# Altium integrated library Atmel GPS.IntLib: 12 symbols
Pins are listed as number, name and electrical type; pins without a type are passive.

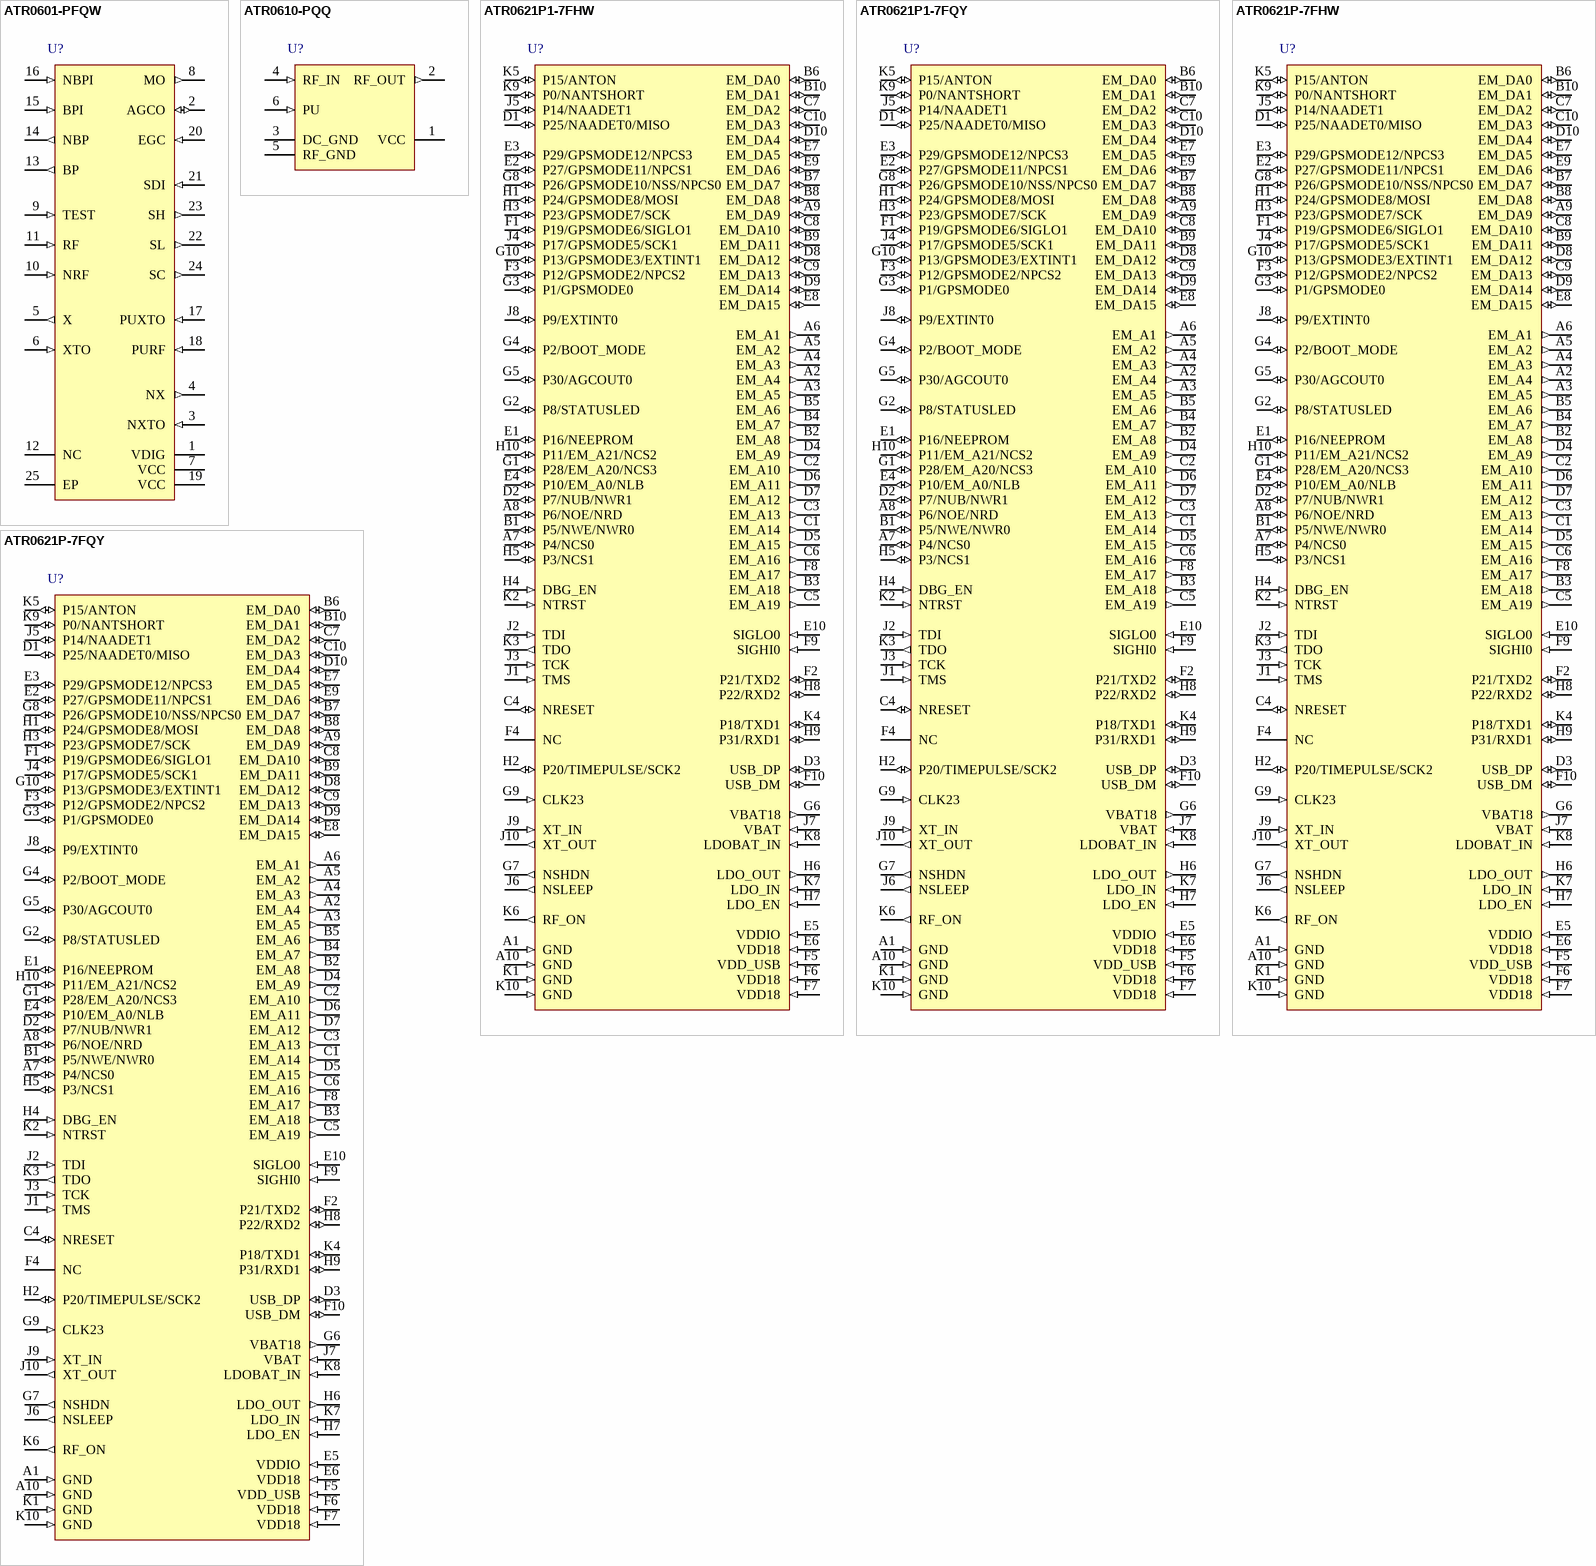
[diagram p0: symbols ATR0601-PFQW to ATR0621P-7FQY]

## ATR0601-PFQW
designator U?
ANTARIS®4 GPS RF Receiver, Single IF Front End Concept, Very Low Power, Immune Against RF Interference, 24-Pin QFN, Pb-Free, Tape and Reel; DatasheetVersion: revG, Nov-2006; PackageVersion: rev2, Nov-2005; PackageReference: QFN24; PackageDescription: 24-Pin Quad Flat No-Lead, 4 x 4 mm Body, 0.5 mm Pitch, 2.6 x 2.6 mm Exposed Pad; Code_JEDEC: MO-220; ComponentLink1Description: Manufacturer URL; ComponentLink1URL: http://www.atmel.com/; ComponentLink2Description: ATR0601 Datasheet; ComponentLink2URL: http://www.atmel.com/dyn/resources/prod_documents/doc4866.pdf
footprint QFN24_N (QFN, 24-Leads, Body 4x4mm, Pitch 0.5mm, Thermal Pad 2.8x2.8mm, IPC Medium Density)
footprint QFN24_L (QFN, 24-Leads, Body 4x4mm, Pitch 0.5mm, Thermal Pad 2.8x2.8mm, IPC High Density)
footprint QFN24_M (QFN, 24-Leads, Body 4x4mm, Pitch 0.5mm, Thermal Pad 2.8x2.8mm, IPC Low Density)
pins: 1 VDIG (power), 2 AGCO (io), 3 NXTO (in), 4 NX (out), 5 X (out), 6 XTO (in), 7 VCC (power), 8 MO (out), 9 TEST (in), 10 NRF (in), 11 RF (in), 12 NC, 13 BP (out), 14 NBP (out), 15 BPI (in), 16 NBPI (in), 17 PUXTO (in), 18 PURF (in), 19 VCC (power), 20 EGC (in), 21 SDI (in), 22 SL (out), 23 SH (out), 24 SC (out), 25 EP (power)

## ATR0610-PQQ
designator U?
ANTARIS GPS LNA with Integrated Power-up Control and Output Matching (NF Min < 1.6 dB), 6-Pin PLLP, Pb-Free; DatasheetVersion: revH, Nov-2006; PackageVersion: rev1, Jul-2002; PackageReference: PLLP6; PackageDescription: LLP, Plastic, Dual, 1.6 x 2 x 0.9 mm Body, 6 Lead, 0.5 mm Pitch; ComponentLink1Description: Manufacturer URL; ComponentLink1URL: http://www.atmel.com/; ComponentLink2Description: ATR0610 Datasheet; ComponentLink2URL: http://www.atmel.com/dyn/resources/prod_documents/doc4573.pdf
footprint PLLP6 (SON, 6-Leads, Body 1.6x2mm, Pitch 0.5mm)
pins: 1 VCC (power), 2 RF_OUT (out), 3 DC_GND (power), 4 RF_IN (in), 5 RF_GND (power), 6 PU (in)

## ATR0621P1-7FHW
designator U?
ANTARIS4 GPS 16-channel Baseband Controller, ARM7TDMI, RAM, ROM V5, Up to -158 dBm Sensitivity with External Software, Low Power, 100-Ball LFBGA; DatasheetVersion: revB, May-2008; PackageVersion: rev2, Oct-2005; PackageReference: LFBGA100; PackageDescription: 100-Ball Low Profile Fine-Pitch BGA, 9 x 9 mm Body, 0.8 mm Pitch; ComponentLink1Description: Manufacturer URL; ComponentLink1URL: http://www.atmel.com/; ComponentLink2Description: ATR0621P1 Datasheet; ComponentLink2URL: http://www.atmel.com/dyn/resources/prod_documents/4975s.pdf
footprint LFBGA100 (BGA, 100-Leads, Body 9x9mm, Pitch 0.8mm)
pins: A1 GND (in), A2 EM_A4 (out), A3 EM_A5 (out), A4 EM_A3 (out), A5 EM_A2 (out), A6 EM_A1 (out), A7 P4/NCS0 (io), A8 P6/NOE/NRD (io), A9 EM_DA9 (io), A10 GND (in), B1 P5/NWE/NWR0 (io), B2 EM_A8 (out), B3 EM_A18 (out), B4 EM_A7 (out), B5 EM_A6 (out), B6 EM_DA0 (io), B7 EM_DA7 (io), B8 EM_DA8 (io), B9 EM_DA11 (io), B10 EM_DA1 (io), C1 EM_A14 (out), C2 EM_A10 (out), C3 EM_A13 (out), C4 NRESET (io), C5 EM_A19 (out), C6 EM_A16 (out), C7 EM_DA2 (io), C8 EM_DA10 (io), C9 EM_DA13 (io), C10 EM_DA3 (io), D1 P25/NAADET0/MISO (io), D2 P7/NUB/NWR1 (io), D3 USB_DP (io), D4 EM_A9 (out), D5 EM_A15 (out), D6 EM_A11 (out), D7 EM_A12 (out), D8 EM_DA12 (io), D9 EM_DA14 (io), D10 EM_DA4 (io), E1 P16/NEEPROM (io), E2 P27/GPSMODE11/NPCS1 (io), E3 P29/GPSMODE12/NPCS3 (io), E4 P10/EM_A0/NLB (io), E5 VDDIO (in), E6 VDD18 (in), E7 EM_DA5 (io), E8 EM_DA15 (io), E9 EM_DA6 (io), E10 SIGLO0 (in), F1 P19/GPSMODE6/SIGLO1 (io), F2 P21/TXD2 (io), F3 P12/GPSMODE2/NPCS2 (io), F4 NC, F5 VDD_USB (in), F6 VDD18 (in), F7 VDD18 (in), F8 EM_A17 (out), F9 SIGHI0 (in), F10 USB_DM (io), G1 P28/EM_A20/NCS3 (io), G2 P8/STATUSLED (io), G3 P1/GPSMODE0 (io), G4 P2/BOOT_MODE (io), G5 P30/AGCOUT0 (io), G6 VBAT18 (out), G7 NSHDN (out), G8 P26/GPSMODE10/NSS/NPCS0 (io), G9 CLK23 (in), G10 P13/GPSMODE3/EXTINT1 (io), H1 P24/GPSMODE8/MOSI (io), H2 P20/TIMEPULSE/SCK2 (io), H3 P23/GPSMODE7/SCK (io), H4 DBG_EN (in), H5 P3/NCS1 (io), H6 LDO_OUT (out), H7 LDO_EN (in), H8 P22/RXD2 (io), H9 P31/RXD1 (io), H10 P11/EM_A21/NCS2 (io), J1 TMS (in), J2 TDI (in), J3 TCK (in), J4 P17/GPSMODE5/SCK1 (io), J5 P14/NAADET1 (io), J6 NSLEEP (out), J7 VBAT (in), J8 P9/EXTINT0 (io), J9 XT_IN (in), J10 XT_OUT (out), K1 GND (in), K2 NTRST (in), K3 TDO (out), K4 P18/TXD1 (io), K5 P15/ANTON (io), K6 RF_ON (out), K7 LDO_IN (in), K8 LDOBAT_IN (in), K9 P0/NANTSHORT (io), K10 GND (in)

## ATR0621P1-7FQY
designator U?
ANTARIS4 GPS 16-channel Baseband Controller, ARM7TDMI, RAM, ROM V5, Up to -158 dBm Sensitivity with External Software, Low Power, 100-Ball LFBGA; DatasheetVersion: revB, May-2008; PackageVersion: rev2, Oct-2005; PackageReference: LFBGA100; PackageDescription: 100-Ball Low Profile Fine-Pitch BGA, 9 x 9 mm Body, 0.8 mm Pitch; ComponentLink1Description: Manufacturer URL; ComponentLink1URL: http://www.atmel.com/; ComponentLink2Description: ATR0621P1 Datasheet; ComponentLink2URL: http://www.atmel.com/dyn/resources/prod_documents/4975s.pdf
footprint LFBGA100 (BGA, 100-Leads, Body 9x9mm, Pitch 0.8mm)
pins: A1 GND (in), A2 EM_A4 (out), A3 EM_A5 (out), A4 EM_A3 (out), A5 EM_A2 (out), A6 EM_A1 (out), A7 P4/NCS0 (io), A8 P6/NOE/NRD (io), A9 EM_DA9 (io), A10 GND (in), B1 P5/NWE/NWR0 (io), B2 EM_A8 (out), B3 EM_A18 (out), B4 EM_A7 (out), B5 EM_A6 (out), B6 EM_DA0 (io), B7 EM_DA7 (io), B8 EM_DA8 (io), B9 EM_DA11 (io), B10 EM_DA1 (io), C1 EM_A14 (out), C2 EM_A10 (out), C3 EM_A13 (out), C4 NRESET (io), C5 EM_A19 (out), C6 EM_A16 (out), C7 EM_DA2 (io), C8 EM_DA10 (io), C9 EM_DA13 (io), C10 EM_DA3 (io), D1 P25/NAADET0/MISO (io), D2 P7/NUB/NWR1 (io), D3 USB_DP (io), D4 EM_A9 (out), D5 EM_A15 (out), D6 EM_A11 (out), D7 EM_A12 (out), D8 EM_DA12 (io), D9 EM_DA14 (io), D10 EM_DA4 (io), E1 P16/NEEPROM (io), E2 P27/GPSMODE11/NPCS1 (io), E3 P29/GPSMODE12/NPCS3 (io), E4 P10/EM_A0/NLB (io), E5 VDDIO (in), E6 VDD18 (in), E7 EM_DA5 (io), E8 EM_DA15 (io), E9 EM_DA6 (io), E10 SIGLO0 (in), F1 P19/GPSMODE6/SIGLO1 (io), F2 P21/TXD2 (io), F3 P12/GPSMODE2/NPCS2 (io), F4 NC, F5 VDD_USB (in), F6 VDD18 (in), F7 VDD18 (in), F8 EM_A17 (out), F9 SIGHI0 (in), F10 USB_DM (io), G1 P28/EM_A20/NCS3 (io), G2 P8/STATUSLED (io), G3 P1/GPSMODE0 (io), G4 P2/BOOT_MODE (io), G5 P30/AGCOUT0 (io), G6 VBAT18 (out), G7 NSHDN (out), G8 P26/GPSMODE10/NSS/NPCS0 (io), G9 CLK23 (in), G10 P13/GPSMODE3/EXTINT1 (io), H1 P24/GPSMODE8/MOSI (io), H2 P20/TIMEPULSE/SCK2 (io), H3 P23/GPSMODE7/SCK (io), H4 DBG_EN (in), H5 P3/NCS1 (io), H6 LDO_OUT (out), H7 LDO_EN (in), H8 P22/RXD2 (io), H9 P31/RXD1 (io), H10 P11/EM_A21/NCS2 (io), J1 TMS (in), J2 TDI (in), J3 TCK (in), J4 P17/GPSMODE5/SCK1 (io), J5 P14/NAADET1 (io), J6 NSLEEP (out), J7 VBAT (in), J8 P9/EXTINT0 (io), J9 XT_IN (in), J10 XT_OUT (out), K1 GND (in), K2 NTRST (in), K3 TDO (out), K4 P18/TXD1 (io), K5 P15/ANTON (io), K6 RF_ON (out), K7 LDO_IN (in), K8 LDOBAT_IN (in), K9 P0/NANTSHORT (io), K10 GND (in)

## ATR0621P-7FHW
designator U?
ANTARIS4 GPS 16-channel Baseband Controller, ARM7TDMI, RAM, ROM V5, Up to -158 dBm Sensitivity with External Software, Low Power, 100-Ball LFBGA, Pb-Free; DatasheetVersion: revB, May-2008; PackageVersion: rev2, Oct-2005; PackageReference: LFBGA100; PackageDescription: 100-Ball Low Profile Fine-Pitch BGA, 9 x 9 mm Body, 0.8 mm Pitch; ComponentLink1Description: Manufacturer URL; ComponentLink1URL: http://www.atmel.com/; ComponentLink2Description: ATR0621P Datasheet; ComponentLink2URL: http://www.atmel.com/dyn/resources/prod_documents/doc4890.pdf
footprint LFBGA100 (BGA, 100-Leads, Body 9x9mm, Pitch 0.8mm)
pins: A1 GND (in), A2 EM_A4 (out), A3 EM_A5 (out), A4 EM_A3 (out), A5 EM_A2 (out), A6 EM_A1 (out), A7 P4/NCS0 (io), A8 P6/NOE/NRD (io), A9 EM_DA9 (io), A10 GND (in), B1 P5/NWE/NWR0 (io), B2 EM_A8 (out), B3 EM_A18 (out), B4 EM_A7 (out), B5 EM_A6 (out), B6 EM_DA0 (io), B7 EM_DA7 (io), B8 EM_DA8 (io), B9 EM_DA11 (io), B10 EM_DA1 (io), C1 EM_A14 (out), C2 EM_A10 (out), C3 EM_A13 (out), C4 NRESET (io), C5 EM_A19 (out), C6 EM_A16 (out), C7 EM_DA2 (io), C8 EM_DA10 (io), C9 EM_DA13 (io), C10 EM_DA3 (io), D1 P25/NAADET0/MISO (io), D2 P7/NUB/NWR1 (io), D3 USB_DP (io), D4 EM_A9 (out), D5 EM_A15 (out), D6 EM_A11 (out), D7 EM_A12 (out), D8 EM_DA12 (io), D9 EM_DA14 (io), D10 EM_DA4 (io), E1 P16/NEEPROM (io), E2 P27/GPSMODE11/NPCS1 (io), E3 P29/GPSMODE12/NPCS3 (io), E4 P10/EM_A0/NLB (io), E5 VDDIO (in), E6 VDD18 (in), E7 EM_DA5 (io), E8 EM_DA15 (io), E9 EM_DA6 (io), E10 SIGLO0 (in), F1 P19/GPSMODE6/SIGLO1 (io), F2 P21/TXD2 (io), F3 P12/GPSMODE2/NPCS2 (io), F4 NC, F5 VDD_USB (in), F6 VDD18 (in), F7 VDD18 (in), F8 EM_A17 (out), F9 SIGHI0 (in), F10 USB_DM (io), G1 P28/EM_A20/NCS3 (io), G2 P8/STATUSLED (io), G3 P1/GPSMODE0 (io), G4 P2/BOOT_MODE (io), G5 P30/AGCOUT0 (io), G6 VBAT18 (out), G7 NSHDN (out), G8 P26/GPSMODE10/NSS/NPCS0 (io), G9 CLK23 (in), G10 P13/GPSMODE3/EXTINT1 (io), H1 P24/GPSMODE8/MOSI (io), H2 P20/TIMEPULSE/SCK2 (io), H3 P23/GPSMODE7/SCK (io), H4 DBG_EN (in), H5 P3/NCS1 (io), H6 LDO_OUT (out), H7 LDO_EN (in), H8 P22/RXD2 (io), H9 P31/RXD1 (io), H10 P11/EM_A21/NCS2 (io), J1 TMS (in), J2 TDI (in), J3 TCK (in), J4 P17/GPSMODE5/SCK1 (io), J5 P14/NAADET1 (io), J6 NSLEEP (out), J7 VBAT (in), J8 P9/EXTINT0 (io), J9 XT_IN (in), J10 XT_OUT (out), K1 GND (in), K2 NTRST (in), K3 TDO (out), K4 P18/TXD1 (io), K5 P15/ANTON (io), K6 RF_ON (out), K7 LDO_IN (in), K8 LDOBAT_IN (in), K9 P0/NANTSHORT (io), K10 GND (in)

## ATR0621P-7FQY
designator U?
ANTARIS4 GPS 16-channel Baseband Controller, ARM7TDMI, RAM, ROM V5, Up to -158 dBm Sensitivity with External Software, Low Power, 100-Ball LFBGA, Pb-Free; DatasheetVersion: revB, May-2008; PackageVersion: rev2, Oct-2005; PackageReference: LFBGA100; PackageDescription: 100-Ball Low Profile Fine-Pitch BGA, 9 x 9 mm Body, 0.8 mm Pitch; ComponentLink1Description: Manufacturer URL; ComponentLink1URL: http://www.atmel.com/; ComponentLink2Description: ATR0621P Datasheet; ComponentLink2URL: http://www.atmel.com/dyn/resources/prod_documents/doc4890.pdf
footprint LFBGA100 (BGA, 100-Leads, Body 9x9mm, Pitch 0.8mm)
pins: A1 GND (in), A2 EM_A4 (out), A3 EM_A5 (out), A4 EM_A3 (out), A5 EM_A2 (out), A6 EM_A1 (out), A7 P4/NCS0 (io), A8 P6/NOE/NRD (io), A9 EM_DA9 (io), A10 GND (in), B1 P5/NWE/NWR0 (io), B2 EM_A8 (out), B3 EM_A18 (out), B4 EM_A7 (out), B5 EM_A6 (out), B6 EM_DA0 (io), B7 EM_DA7 (io), B8 EM_DA8 (io), B9 EM_DA11 (io), B10 EM_DA1 (io), C1 EM_A14 (out), C2 EM_A10 (out), C3 EM_A13 (out), C4 NRESET (io), C5 EM_A19 (out), C6 EM_A16 (out), C7 EM_DA2 (io), C8 EM_DA10 (io), C9 EM_DA13 (io), C10 EM_DA3 (io), D1 P25/NAADET0/MISO (io), D2 P7/NUB/NWR1 (io), D3 USB_DP (io), D4 EM_A9 (out), D5 EM_A15 (out), D6 EM_A11 (out), D7 EM_A12 (out), D8 EM_DA12 (io), D9 EM_DA14 (io), D10 EM_DA4 (io), E1 P16/NEEPROM (io), E2 P27/GPSMODE11/NPCS1 (io), E3 P29/GPSMODE12/NPCS3 (io), E4 P10/EM_A0/NLB (io), E5 VDDIO (in), E6 VDD18 (in), E7 EM_DA5 (io), E8 EM_DA15 (io), E9 EM_DA6 (io), E10 SIGLO0 (in), F1 P19/GPSMODE6/SIGLO1 (io), F2 P21/TXD2 (io), F3 P12/GPSMODE2/NPCS2 (io), F4 NC, F5 VDD_USB (in), F6 VDD18 (in), F7 VDD18 (in), F8 EM_A17 (out), F9 SIGHI0 (in), F10 USB_DM (io), G1 P28/EM_A20/NCS3 (io), G2 P8/STATUSLED (io), G3 P1/GPSMODE0 (io), G4 P2/BOOT_MODE (io), G5 P30/AGCOUT0 (io), G6 VBAT18 (out), G7 NSHDN (out), G8 P26/GPSMODE10/NSS/NPCS0 (io), G9 CLK23 (in), G10 P13/GPSMODE3/EXTINT1 (io), H1 P24/GPSMODE8/MOSI (io), H2 P20/TIMEPULSE/SCK2 (io), H3 P23/GPSMODE7/SCK (io), H4 DBG_EN (in), H5 P3/NCS1 (io), H6 LDO_OUT (out), H7 LDO_EN (in), H8 P22/RXD2 (io), H9 P31/RXD1 (io), H10 P11/EM_A21/NCS2 (io), J1 TMS (in), J2 TDI (in), J3 TCK (in), J4 P17/GPSMODE5/SCK1 (io), J5 P14/NAADET1 (io), J6 NSLEEP (out), J7 VBAT (in), J8 P9/EXTINT0 (io), J9 XT_IN (in), J10 XT_OUT (out), K1 GND (in), K2 NTRST (in), K3 TDO (out), K4 P18/TXD1 (io), K5 P15/ANTON (io), K6 RF_ON (out), K7 LDO_IN (in), K8 LDOBAT_IN (in), K9 P0/NANTSHORT (io), K10 GND (in)

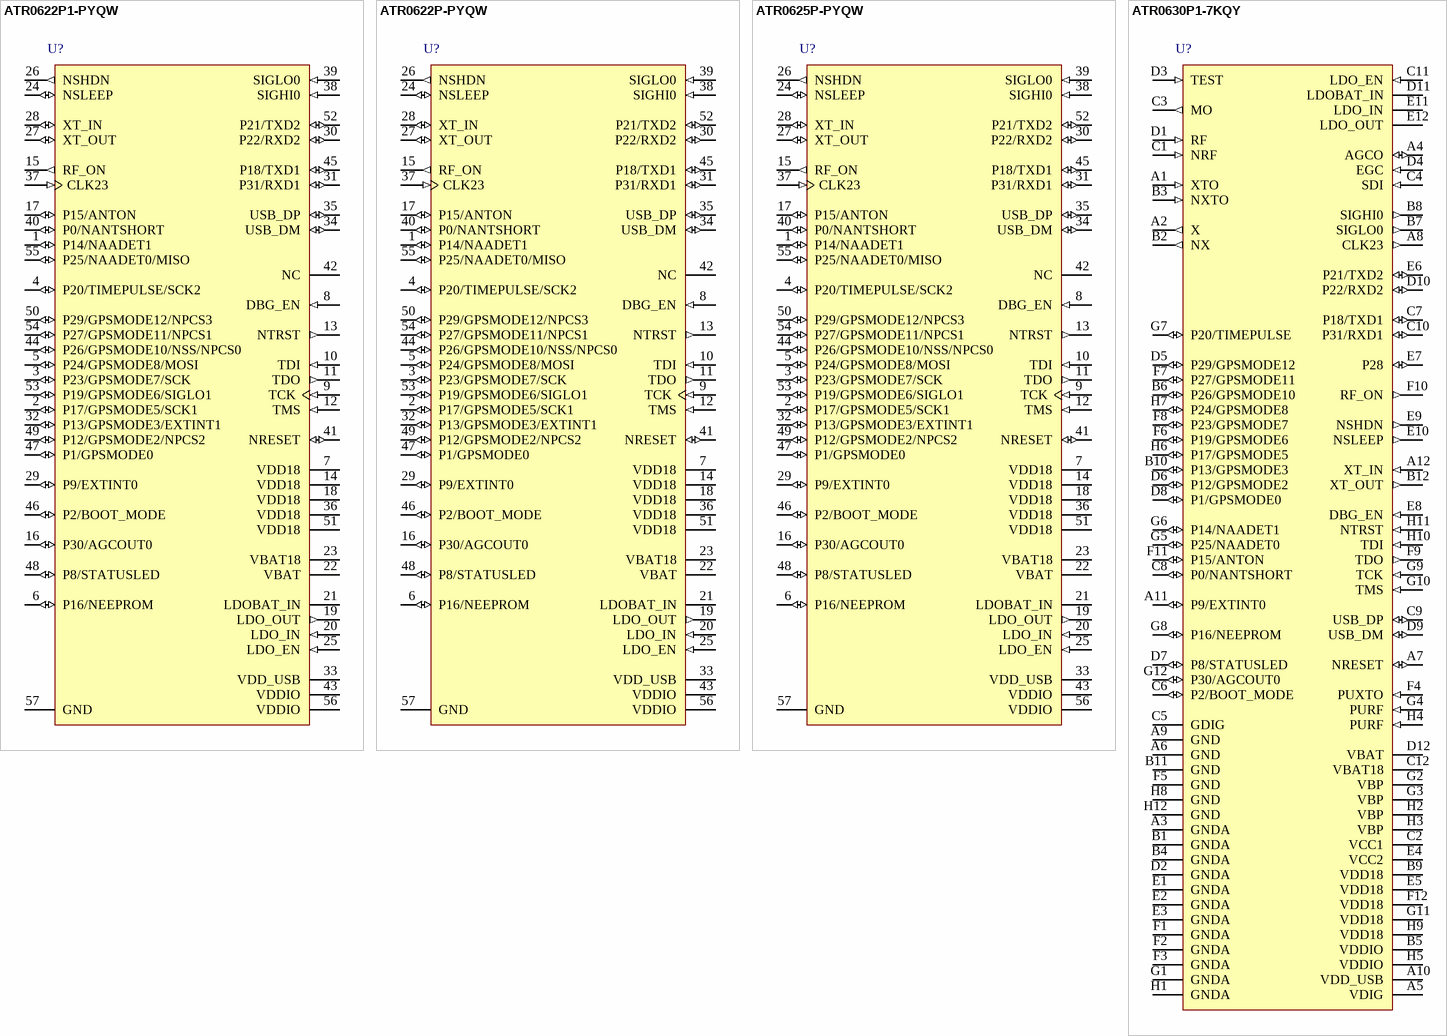
[diagram p1: symbols ATR0622P1-PYQW to ATR0630P1-7KQY]

## ATR0622P1-PYQW
designator U?
ANTARIS4 GPS 16-channel Baseband Controller, ARM7TDMI, RAM, ROM V5, Up to -150 dBm Sensitivity, Low Power, 56-Pin QFN; DatasheetVersion: revA, Dec-2007; PackageVersion: rev1, Sep-2005; PackageReference: QFN56; PackageDescription: 56-Pin Quad Flat No-Lead, 8 x 8 mm Body, 0.5 mm Pitch, 6.5 x 6.5 mm Exposed Pad; ComponentLink1Description: Manufacturer URL; ComponentLink1URL: http://www.atmel.com/; ComponentLink2Description: ATR0622P1 Datasheet; ComponentLink2URL: http://www.atmel.com/dyn/resources/prod_documents/4973s.pdf
footprint QFN56_N (QFN, 56-Leads, Body 8x8mm, Pitch 0.5mm, Thermal Pad 6.5x6.5mm, IPC Medium Density)
footprint QFN56_L (QFN, 56-Leads, Body 8x8mm, Pitch 0.5mm, Thermal Pad 6.5x6.5mm, IPC High Density)
footprint QFN56_M (QFN, 56-Leads, Body 8x8mm, Pitch 0.5mm, Thermal Pad 6.5x6.5mm, IPC Low Density)
pins: 1 P14/NAADET1 (io), 2 P17/GPSMODE5/SCK1 (io), 3 P23/GPSMODE7/SCK (io), 4 P20/TIMEPULSE/SCK2 (io), 5 P24/GPSMODE8/MOSI (io), 6 P16/NEEPROM (io), 7 VDD18 (power), 8 DBG_EN (in), 9 TCK (in), 10 TDI (in), 11 TDO (out), 12 TMS (in), 13 NTRST (out), 14 VDD18 (power), 15 RF_ON (out), 16 P30/AGCOUT0 (io), 17 P15/ANTON (io), 18 VDD18 (power), 19 LDO_OUT (out), 20 LDO_IN (in), 21 LDOBAT_IN (power), 22 VBAT (power), 23 VBAT18 (power), 24 NSLEEP (io), 25 LDO_EN (in), 26 NSHDN (out), 27 XT_OUT (io), 28 XT_IN (io), 29 P9/EXTINT0 (io), 30 P22/RXD2 (io), 31 P31/RXD1 (io), 32 P13/GPSMODE3/EXTINT1 (io), 33 VDD_USB (power), 34 USB_DM (io), 35 USB_DP (io), 36 VDD18 (power), 37 CLK23 (in), 38 SIGHI0 (in), 39 SIGLO0 (in), 40 P0/NANTSHORT (io), 41 NRESET (io), 42 NC, 43 VDDIO (power), 44 P26/GPSMODE10/NSS/NPCS0 (io), 45 P18/TXD1 (io), 46 P2/BOOT_MODE (io), 47 P1/GPSMODE0 (io), 48 P8/STATUSLED (io), 49 P12/GPSMODE2/NPCS2 (io), 50 P29/GPSMODE12/NPCS3 (io), 51 VDD18 (power), 52 P21/TXD2 (io), 53 P19/GPSMODE6/SIGLO1 (io), 54 P27/GPSMODE11/NPCS1 (io), 55 P25/NAADET0/MISO (io), 56 VDDIO (power), 57 GND (power)

## ATR0622P-PYQW
designator U?
ANTARIS4 GPS 16-channel Baseband Controller, ARM7TDMI, RAM, ROM V5, Up to -150 dBm Sensitivity, Low Power, 56-Pin QFN; DatasheetVersion: revG, Aug-2008; PackageVersion: rev1, Sep-2005; PackageReference: QFN56; PackageDescription: 56-Pin Quad Flat No-Lead, 8 x 8 mm Body, 0.5 mm Pitch, 6.5 x 6.5 mm Exposed Pad; ComponentLink1Description: Manufacturer URL; ComponentLink1URL: http://www.atmel.com/; ComponentLink2Description: ATR0622P Datasheet; ComponentLink2URL: http://www.atmel.com/dyn/resources/prod_documents/doc4891.pdf
footprint QFN56_N (QFN, 56-Leads, Body 8x8mm, Pitch 0.5mm, Thermal Pad 6.5x6.5mm, IPC Medium Density)
footprint QFN56_L (QFN, 56-Leads, Body 8x8mm, Pitch 0.5mm, Thermal Pad 6.5x6.5mm, IPC High Density)
footprint QFN56_M (QFN, 56-Leads, Body 8x8mm, Pitch 0.5mm, Thermal Pad 6.5x6.5mm, IPC Low Density)
pins: 1 P14/NAADET1 (io), 2 P17/GPSMODE5/SCK1 (io), 3 P23/GPSMODE7/SCK (io), 4 P20/TIMEPULSE/SCK2 (io), 5 P24/GPSMODE8/MOSI (io), 6 P16/NEEPROM (io), 7 VDD18 (power), 8 DBG_EN (in), 9 TCK (in), 10 TDI (in), 11 TDO (out), 12 TMS (in), 13 NTRST (out), 14 VDD18 (power), 15 RF_ON (out), 16 P30/AGCOUT0 (io), 17 P15/ANTON (io), 18 VDD18 (power), 19 LDO_OUT (out), 20 LDO_IN (in), 21 LDOBAT_IN (power), 22 VBAT (power), 23 VBAT18 (power), 24 NSLEEP (io), 25 LDO_EN (in), 26 NSHDN (out), 27 XT_OUT (io), 28 XT_IN (io), 29 P9/EXTINT0 (io), 30 P22/RXD2 (io), 31 P31/RXD1 (io), 32 P13/GPSMODE3/EXTINT1 (io), 33 VDD_USB (power), 34 USB_DM (io), 35 USB_DP (io), 36 VDD18 (power), 37 CLK23 (in), 38 SIGHI0 (in), 39 SIGLO0 (in), 40 P0/NANTSHORT (io), 41 NRESET (io), 42 NC, 43 VDDIO (power), 44 P26/GPSMODE10/NSS/NPCS0 (io), 45 P18/TXD1 (io), 46 P2/BOOT_MODE (io), 47 P1/GPSMODE0 (io), 48 P8/STATUSLED (io), 49 P12/GPSMODE2/NPCS2 (io), 50 P29/GPSMODE12/NPCS3 (io), 51 VDD18 (power), 52 P21/TXD2 (io), 53 P19/GPSMODE6/SIGLO1 (io), 54 P27/GPSMODE11/NPCS1 (io), 55 P25/NAADET0/MISO (io), 56 VDDIO (power), 57 GND (power)

## ATR0625P-PYQW
designator U?
ANTARIS4 GPS 16-channel Baseband Controller, ARM7TDMI, RAM, SuperSense® ROM V5, Up to -158 dBm Sensitivity, Low Power, 56-Pin QFN; DatasheetVersion: revG, Jun-2008; PackageVersion: rev1, Sep-2005; PackageReference: QFN56; PackageDescription: 56-Pin Quad Flat No-Lead, 8 x 8 mm Body, 0.5 mm Pitch, 6.5 x 6.5 mm Exposed Pad; ComponentLink1Description: Manufacturer URL; ComponentLink1URL: http://www.atmel.com/; ComponentLink2Description: ATR0625P Datasheet; ComponentLink2URL: http://www.atmel.com/dyn/resources/prod_documents/doc4925.pdf
footprint QFN56_N (QFN, 56-Leads, Body 8x8mm, Pitch 0.5mm, Thermal Pad 6.5x6.5mm, IPC Medium Density)
footprint QFN56_L (QFN, 56-Leads, Body 8x8mm, Pitch 0.5mm, Thermal Pad 6.5x6.5mm, IPC High Density)
footprint QFN56_M (QFN, 56-Leads, Body 8x8mm, Pitch 0.5mm, Thermal Pad 6.5x6.5mm, IPC Low Density)
pins: 1 P14/NAADET1 (io), 2 P17/GPSMODE5/SCK1 (io), 3 P23/GPSMODE7/SCK (io), 4 P20/TIMEPULSE/SCK2 (io), 5 P24/GPSMODE8/MOSI (io), 6 P16/NEEPROM (io), 7 VDD18 (power), 8 DBG_EN (in), 9 TCK (in), 10 TDI (in), 11 TDO (out), 12 TMS (in), 13 NTRST (out), 14 VDD18 (power), 15 RF_ON (out), 16 P30/AGCOUT0 (io), 17 P15/ANTON (io), 18 VDD18 (power), 19 LDO_OUT (out), 20 LDO_IN (in), 21 LDOBAT_IN (power), 22 VBAT (power), 23 VBAT18 (power), 24 NSLEEP (io), 25 LDO_EN (in), 26 NSHDN (out), 27 XT_OUT (io), 28 XT_IN (io), 29 P9/EXTINT0 (io), 30 P22/RXD2 (io), 31 P31/RXD1 (io), 32 P13/GPSMODE3/EXTINT1 (io), 33 VDD_USB (power), 34 USB_DM (io), 35 USB_DP (io), 36 VDD18 (power), 37 CLK23 (in), 38 SIGHI0 (in), 39 SIGLO0 (in), 40 P0/NANTSHORT (io), 41 NRESET (io), 42 NC, 43 VDDIO (power), 44 P26/GPSMODE10/NSS/NPCS0 (io), 45 P18/TXD1 (io), 46 P2/BOOT_MODE (io), 47 P1/GPSMODE0 (io), 48 P8/STATUSLED (io), 49 P12/GPSMODE2/NPCS2 (io), 50 P29/GPSMODE12/NPCS3 (io), 51 VDD18 (power), 52 P21/TXD2 (io), 53 P19/GPSMODE6/SIGLO1 (io), 54 P27/GPSMODE11/NPCS1 (io), 55 P25/NAADET0/MISO (io), 56 VDDIO (power), 57 GND (power)

## ATR0630P1-7KQY
designator U?
ANTARIS4 Single-chip, 16-channel GPS Engine, RF-receiver, Baseband Controller, ARM7TDMI, RAM, ROM V5, Up to -150 dBm Sensitivity, 96-Ball BGA, Pb-Free; DatasheetVersion: revA, Dec-2007; PackageVersion: rev2, May-2006; PackageReference: BGA96; PackageDescription: 96-Ball Ball Grid Array Rectangular 0.8 mm Pitch; ComponentLink1Description: Manufacturer URL; ComponentLink1URL: http://www.atmel.com/; ComponentLink2Description: ATR0630P1 Datasheet; ComponentLink2URL: http://www.atmel.com/dyn/resources/prod_documents/4978s.pdf
footprint BGA96 (BGA, 96-Leads, Body 7x10mm, Pitch 0.8mm)
pins: A1 XTO (in), A2 X (out), A3 GNDA (power), A4 AGCO (io), A5 VDIG (power), A6 GND (power), A7 NRESET (io), A8 CLK23 (out), A9 GND (power), A10 VDD_USB (power), A11 P9/EXTINT0 (io), A12 XT_IN (in), B1 GNDA (power), B2 NX (out), B3 NXTO (in), B4 GNDA (power), B5 VDDIO (power), B6 P26/GPSMODE10 (io), B7 SIGLO0 (out), B8 SIGHI0 (out), B9 VDD18 (power), B10 P13/GPSMODE3 (io), B11 GND (power), B12 XT_OUT (out), C1 NRF (in), C2 VCC1 (power), C3 MO (out), C4 SDI (in), C5 GDIG (power), C6 P2/BOOT_MODE (io), C7 P18/TXD1 (io), C8 P0/NANTSHORT (io), C9 USB_DP (io), C10 P31/RXD1 (io), C11 LDO_EN (in), C12 VBAT18 (power), D1 RF (in), D2 GNDA (power), D3 TEST (in), D4 EGC (in), D5 P29/GPSMODE12 (io), D6 P12/GPSMODE2 (io), D7 P8/STATUSLED (io), D8 P1/GPSMODE0 (io), D9 USB_DM (io), D10 P22/RXD2 (io), D11 LDOBAT_IN (power), D12 VBAT (power), E1 GNDA (power), E2 GNDA (power), E3 GNDA (power), E4 VCC2 (power), E5 VDD18 (power), E6 P21/TXD2 (io), E7 P28 (io), E8 DBG_EN (in), E9 NSHDN (out), E10 NSLEEP (out), E11 LDO_IN (power), E12 LDO_OUT (power), F1 GNDA (power), F2 GNDA (power), F3 GNDA (power), F4 PUXTO (in), F5 GND (power), F6 P19/GPSMODE6 (io), F7 P27/GPSMODE11 (io), F8 P23/GPSMODE7 (io), F9 TDO (out), F10 RF_ON (out), F11 P15/ANTON (io), F12 VDD18 (power), G1 GNDA (power), G2 VBP (power), G3 VBP (power), G4 PURF (in), G5 P25/NAADET0 (io), G6 P14/NAADET1 (io), G7 P20/TIMEPULSE (io), G8 P16/NEEPROM (io), G9 TCK (in), G10 TMS (in), G11 VDD18 (power), G12 P30/AGCOUT0 (io), H1 GNDA (power), H2 VBP (power), H3 VBP (power), H4 PURF (in), H5 VDDIO (power), H6 P17/GPSMODE5 (io), H7 P24/GPSMODE8 (io), H8 GND (power), H9 VDD18 (power), H10 TDI (in), H11 NTRST (in), H12 GND (power)

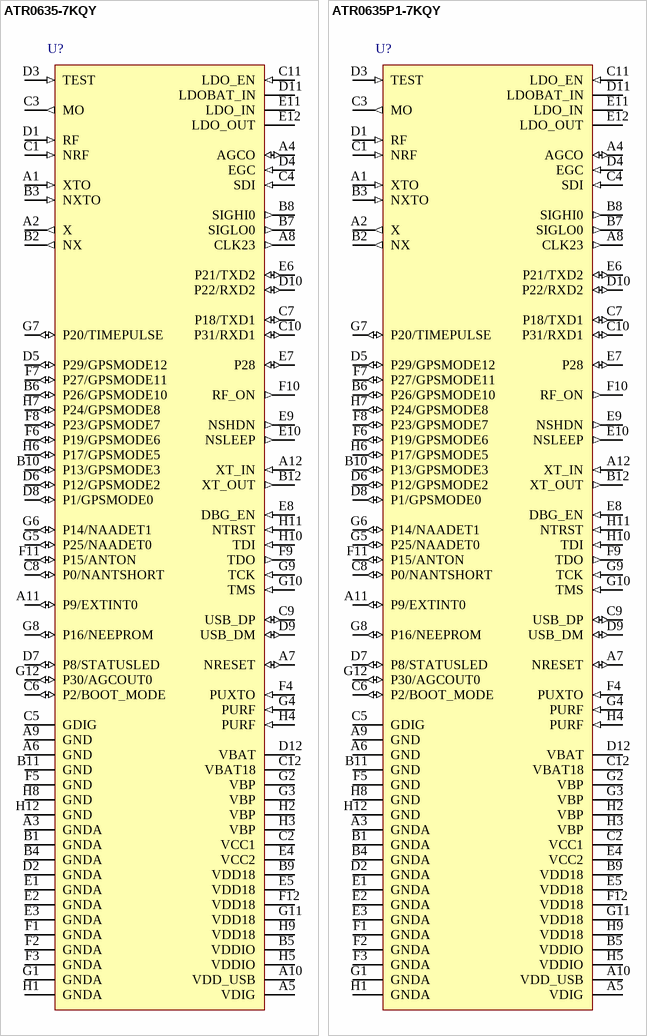
[diagram p2: symbols ATR0635-7KQY to ATR0635P1-7KQY]

## ATR0635-7KQY
designator U?
ANTARIS4 Single-chip, 16-channel GPS Engine, RF-receiver, Baseband Controller, ARM7TDMI, RAM, SuperSense ROM V5, Up to -158 dBm Sensitivity, 96-Ball BGA, Pb-Free; DatasheetVersion: revH, Jun-2008; PackageVersion: rev2, May-2006; PackageReference: BGA96; PackageDescription: 96-Ball Ball Grid Array Rectangular 0.8 mm Pitch; ComponentLink1Description: Manufacturer URL; ComponentLink1URL: http://www.atmel.com/; ComponentLink2Description: ATR0635 Datasheet; ComponentLink2URL: http://www.atmel.com/dyn/resources/prod_documents/doc4928.pdf
footprint BGA96 (BGA, 96-Leads, Body 7x10mm, Pitch 0.8mm)
pins: A1 XTO (in), A2 X (out), A3 GNDA (power), A4 AGCO (io), A5 VDIG (power), A6 GND (power), A7 NRESET (io), A8 CLK23 (out), A9 GND (power), A10 VDD_USB (power), A11 P9/EXTINT0 (io), A12 XT_IN (in), B1 GNDA (power), B2 NX (out), B3 NXTO (in), B4 GNDA (power), B5 VDDIO (power), B6 P26/GPSMODE10 (io), B7 SIGLO0 (out), B8 SIGHI0 (out), B9 VDD18 (power), B10 P13/GPSMODE3 (io), B11 GND (power), B12 XT_OUT (out), C1 NRF (in), C2 VCC1 (power), C3 MO (out), C4 SDI (in), C5 GDIG (power), C6 P2/BOOT_MODE (io), C7 P18/TXD1 (io), C8 P0/NANTSHORT (io), C9 USB_DP (io), C10 P31/RXD1 (io), C11 LDO_EN (in), C12 VBAT18 (power), D1 RF (in), D2 GNDA (power), D3 TEST (in), D4 EGC (in), D5 P29/GPSMODE12 (io), D6 P12/GPSMODE2 (io), D7 P8/STATUSLED (io), D8 P1/GPSMODE0 (io), D9 USB_DM (io), D10 P22/RXD2 (io), D11 LDOBAT_IN (power), D12 VBAT (power), E1 GNDA (power), E2 GNDA (power), E3 GNDA (power), E4 VCC2 (power), E5 VDD18 (power), E6 P21/TXD2 (io), E7 P28 (io), E8 DBG_EN (in), E9 NSHDN (out), E10 NSLEEP (out), E11 LDO_IN (power), E12 LDO_OUT (power), F1 GNDA (power), F2 GNDA (power), F3 GNDA (power), F4 PUXTO (in), F5 GND (power), F6 P19/GPSMODE6 (io), F7 P27/GPSMODE11 (io), F8 P23/GPSMODE7 (io), F9 TDO (out), F10 RF_ON (out), F11 P15/ANTON (io), F12 VDD18 (power), G1 GNDA (power), G2 VBP (power), G3 VBP (power), G4 PURF (in), G5 P25/NAADET0 (io), G6 P14/NAADET1 (io), G7 P20/TIMEPULSE (io), G8 P16/NEEPROM (io), G9 TCK (in), G10 TMS (in), G11 VDD18 (power), G12 P30/AGCOUT0 (io), H1 GNDA (power), H2 VBP (power), H3 VBP (power), H4 PURF (in), H5 VDDIO (power), H6 P17/GPSMODE5 (io), H7 P24/GPSMODE8 (io), H8 GND (power), H9 VDD18 (power), H10 TDI (in), H11 NTRST (in), H12 GND (power)

## ATR0635P1-7KQY
designator U?
ANTARIS4 Single-chip, 16-channel GPS Engine, RF-receiver, Baseband Controller, ARM7TDMI, SuperSense ROM V5, Up to -158 dBm Sensitivity, 96-Ball BGA, Pb-Free; DatasheetVersion: revD, Jun-2008; PackageVersion: rev2, May-2006; PackageReference: BGA96; PackageDescription: 96-Ball Ball Grid Array Rectangular 0.8 mm Pitch; ComponentLink1Description: Manufacturer URL; ComponentLink1URL: http://www.atmel.com/; ComponentLink2Description: ATR0635P1 Datasheet; ComponentLink2URL: http://www.atmel.com/dyn/resources/prod_documents/doc4979.pdf
footprint BGA96 (BGA, 96-Leads, Body 7x10mm, Pitch 0.8mm)
pins: A1 XTO (in), A2 X (out), A3 GNDA (power), A4 AGCO (io), A5 VDIG (power), A6 GND (power), A7 NRESET (io), A8 CLK23 (out), A9 GND (power), A10 VDD_USB (power), A11 P9/EXTINT0 (io), A12 XT_IN (in), B1 GNDA (power), B2 NX (out), B3 NXTO (in), B4 GNDA (power), B5 VDDIO (power), B6 P26/GPSMODE10 (io), B7 SIGLO0 (out), B8 SIGHI0 (out), B9 VDD18 (power), B10 P13/GPSMODE3 (io), B11 GND (power), B12 XT_OUT (out), C1 NRF (in), C2 VCC1 (power), C3 MO (out), C4 SDI (in), C5 GDIG (power), C6 P2/BOOT_MODE (io), C7 P18/TXD1 (io), C8 P0/NANTSHORT (io), C9 USB_DP (io), C10 P31/RXD1 (io), C11 LDO_EN (in), C12 VBAT18 (power), D1 RF (in), D2 GNDA (power), D3 TEST (in), D4 EGC (in), D5 P29/GPSMODE12 (io), D6 P12/GPSMODE2 (io), D7 P8/STATUSLED (io), D8 P1/GPSMODE0 (io), D9 USB_DM (io), D10 P22/RXD2 (io), D11 LDOBAT_IN (power), D12 VBAT (power), E1 GNDA (power), E2 GNDA (power), E3 GNDA (power), E4 VCC2 (power), E5 VDD18 (power), E6 P21/TXD2 (io), E7 P28 (io), E8 DBG_EN (in), E9 NSHDN (out), E10 NSLEEP (out), E11 LDO_IN (power), E12 LDO_OUT (power), F1 GNDA (power), F2 GNDA (power), F3 GNDA (power), F4 PUXTO (in), F5 GND (power), F6 P19/GPSMODE6 (io), F7 P27/GPSMODE11 (io), F8 P23/GPSMODE7 (io), F9 TDO (out), F10 RF_ON (out), F11 P15/ANTON (io), F12 VDD18 (power), G1 GNDA (power), G2 VBP (power), G3 VBP (power), G4 PURF (in), G5 P25/NAADET0 (io), G6 P14/NAADET1 (io), G7 P20/TIMEPULSE (io), G8 P16/NEEPROM (io), G9 TCK (in), G10 TMS (in), G11 VDD18 (power), G12 P30/AGCOUT0 (io), H1 GNDA (power), H2 VBP (power), H3 VBP (power), H4 PURF (in), H5 VDDIO (power), H6 P17/GPSMODE5 (io), H7 P24/GPSMODE8 (io), H8 GND (power), H9 VDD18 (power), H10 TDI (in), H11 NTRST (in), H12 GND (power)